# Altium schematic symbol library XTAL_HC49P488W45L1150T500H350.SchLib: 1 symbol
Pins are listed as number, name and electrical type; pins without a type are passive.

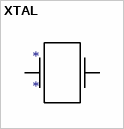
[diagram p0: symbol XTAL]

## XTAL
designator *
footprint XTAL_HC49P488W45L1150T500H350
pins: 1, 2